# Altium footprint library PB0042.PcbLib: 39 footprints (part 2 of 3)
Each footprint in its own frame and in the unit in brackets; x right, y up, seen from the top. Pads: shape width x height; smd on the part's side, far side on the other; paste and mask are expansions set on the pad; w line width, h text height; cw(c..) or ccw(c..) is an arc to the next point about the centre after c.
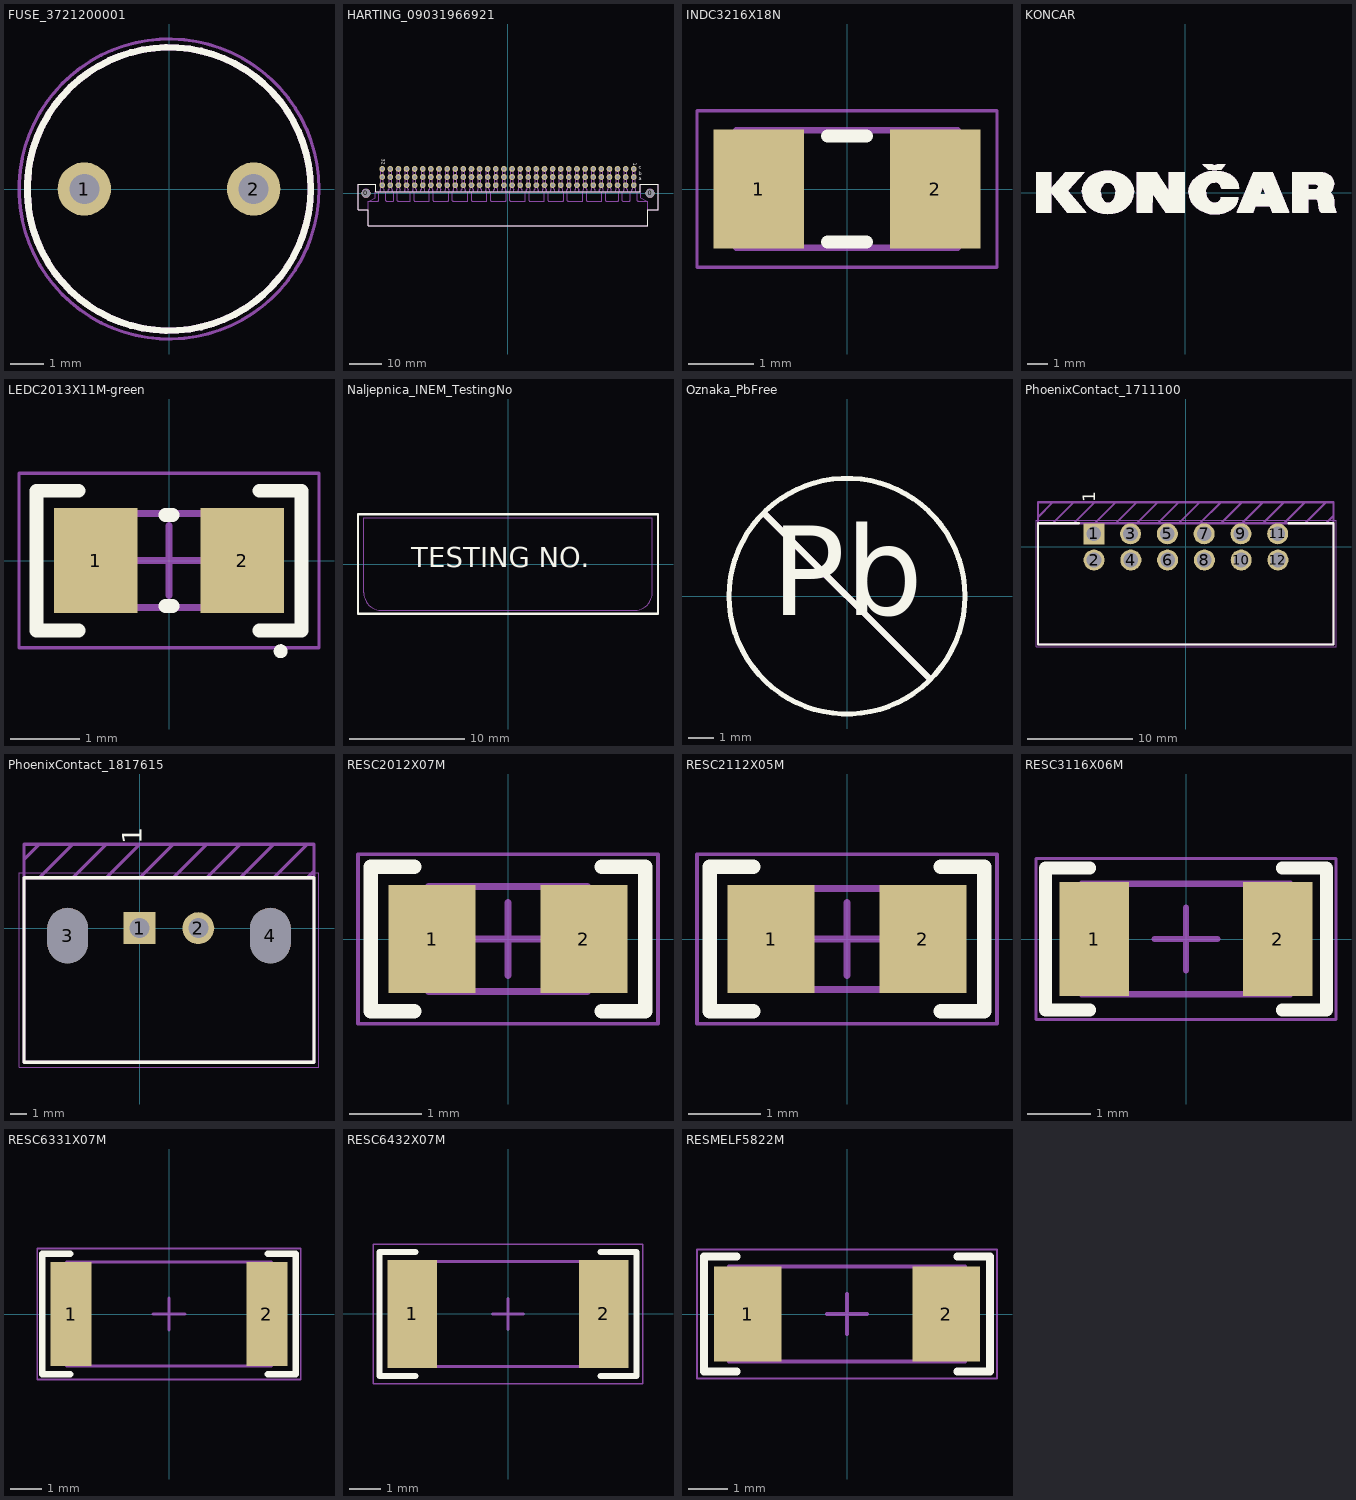
[diagram p1: the footprints below, top view; thin cyan lines are the x and y axes]

## FUSE_3721200001 [mm]
pads (2):
  round 1.6 hole 0.9: 1(-2.54,0) 2(2.54,0)
Top Overlay:
  circle w0.2: c0,0 r4.25
Top Assembly:
  circle w0.2: c0,0 r4.25
  text ".Designator" at -0.55,-0.439 h1.52
Top Courtyard:
  circle w0.1: c0,0 r4.5
3D body: height 8.5, standoff -3.8, extent -4.25,-4.25 4.25,4.25

## HARTING_09031966921 [mm]
pads (98):
  round 2.8 hole 2.8 unplated: 0(-44.45,0) 0(44.45,0)
  round 1.8 hole 1.1: 1a(39.37,2.54) 1b(39.37,5.08) 1c(39.37,7.62) 2a(36.83,2.54) 2b(36.83,5.08) 2c(36.83,7.62) 3a(34.29,2.54) 3b(34.29,5.08) 3c(34.29,7.62) 4a(31.75,2.54) 4b(31.75,5.08) 4c(31.75,7.62) 5a(29.21,2.54) 5b(29.21,5.08) 5c(29.21,7.62) 6a(26.67,2.54) 6b(26.67,5.08) 6c(26.67,7.62) 7a(24.13,2.54) 7b(24.13,5.08) 7c(24.13,7.62) 8a(21.59,2.54) 8b(21.59,5.08) 8c(21.59,7.62) 9a(19.05,2.54) 9b(19.05,5.08) 9c(19.05,7.62) 10a(16.51,2.54) 10b(16.51,5.08) 10c(16.51,7.62) 11a(13.97,2.54) 11b(13.97,5.08) 11c(13.97,7.62) 12a(11.43,2.54) 12b(11.43,5.08) 12c(11.43,7.62) 13a(8.89,2.54) 13b(8.89,5.08) 13c(8.89,7.62) 14a(6.35,2.54) 14b(6.35,5.08) 14c(6.35,7.62) 15a(3.81,2.54) 15b(3.81,5.08) 15c(3.81,7.62) 16a(1.27,2.54) 16b(1.27,5.08) 16c(1.27,7.62) 17a(-1.27,2.54) 17b(-1.27,5.08) 17c(-1.27,7.62) 18a(-3.81,2.54) 18b(-3.81,5.08) 18c(-3.81,7.62) 19a(-6.35,2.54) 19b(-6.35,5.08) 19c(-6.35,7.62) 20a(-8.89,2.54) 20b(-8.89,5.08) 20c(-8.89,7.62) 21a(-11.43,2.54) 21b(-11.43,5.08) 21c(-11.43,7.62) 22a(-13.97,2.54) 22b(-13.97,5.08) 22c(-13.97,7.62) 23a(-16.51,2.54) 23b(-16.51,5.08) 23c(-16.51,7.62) 24a(-19.05,2.54) 24b(-19.05,5.08) 24c(-19.05,7.62) 25a(-21.59,2.54) 25b(-21.59,5.08) 25c(-21.59,7.62) 26a(-24.13,2.54) 26b(-24.13,5.08) 26c(-24.13,7.62) 27a(-26.67,2.54) 27b(-26.67,5.08) 27c(-26.67,7.62) 28a(-29.21,2.54) 28b(-29.21,5.08) 28c(-29.21,7.62) 29a(-31.75,2.54) 29b(-31.75,5.08) 29c(-31.75,7.62) 30a(-34.29,2.54) 30b(-34.29,5.08) 30c(-34.29,7.62) 31a(-36.83,2.54) 31b(-36.83,5.08) 31c(-36.83,7.62) 32a(-39.37,2.54) 32b(-39.37,5.08) 32c(-39.37,7.62)
Top Overlay:
  lines w0.2: -46.95,-5.2 -46.95,2.85 -41.45,2.85 -41.45,0.5 41.45,0.5 41.45,2.85 46.95,2.85 46.95,-5.2 43.7,-5.2 43.7,-10.1 -43.7,-10.1 -43.7,-5.2 -46.95,-5.2
  text "32" at -40,10.77 h2
  text "1" at 38.7,9.57 h2
  text "c" at 40.85,7.145 h2
  text "b" at 40.975,5.17 h2
  text "a" at 40.9,3.545 h2
Bottom Overlay:
  text "1" at 38.7,9.07 h2
  text "32" at -40,8.97 h2
  text "c" at 41.5,7.07 h2
  text "b" at 41.5,4.57 h2
  text "a" at 41.7,2.07 h2
Top Assembly:
  drawing of 1810 lines, arcs and shapes, not listed
  text ".Designator" at -4.445,-5.207 h2
  text "1" at 38.7,9.07 h2
  text "32" at -40.259,9.017 h2
  text "a" at 40.64,3.048 h2
  text "b" at 40.64,4.572 h2
  text "c" at 40.64,7.112 h2
Top Courtyard:
  lines w0.2: -46.95,-5.2 -46.95,2.85 -41.45,2.85 -41.45,0.5 41.45,0.5 41.45,2.85 46.95,2.85 46.95,-5.2 43.7,-5.2 43.7,-10.1 -43.7,-10.1 -43.7,-5.2 -46.95,-5.2
3D body: height 9.36, standoff -3.02, extent -47.004,-10.1 47,7.92

## INDC3216X18N [mm]
pads (2):
  rect 1.39x1.82 smd: 1(-1.355,0) 2(1.355,0)
Top Overlay:
  lines w0.2: -0.3,-0.81 0.3,-0.81 ; -0.3,0.81 0.3,0.81
Top Assembly:
  lines w0.1: -1.7,-0.9 1.7,-0.9 1.7,0.9 -1.7,0.9 -1.7,-0.9
  text ".designator" at -0.253,0.65 h1.52
Top Courtyard:
  lines w0.05: -2.3,-1.2 2.3,-1.2 2.3,1.2 -2.3,1.2 -2.3,-1.2
3D body "INDC3216X18N.step": height 1.8, standoff 0, extent -1.7,-0.9 1.7,0.9

## KONCAR [mm]
Top Overlay:
  drawing of 1820 lines, arcs and shapes, not listed
Top Assembly:
  drawing of 1820 lines, arcs and shapes, not listed

## LEDC2013X11M-green [mm]
pads (2):
  rect 1.2x1.5 smd: 1(-1.05,0) 2(1.05,0)
Top Overlay:
  circle w0.1: c1.6,-1.3 r0.05
  lines w0.2: -1.3,-1 -1.9,-1 -1.9,1 -1.3,1 ; -0.05,-0.65 0.05,-0.65 ; -0.05,0.65 0.05,0.65 ; 1.3,-1 1.9,-1 1.9,1 1.3,1
Top Assembly:
  lines w0.1: 0.6,-0.675 0.6,0.675 ; 0.697,-0.675 0.697,0.675 ; 0.762,-0.675 0.762,0.675 ; -1.05,-0.675 -1.05,0.675 1.05,0.675 1.05,-0.675 -1.05,-0.675
  text ".Designator" at -1.15,1.061 h1.52
Top Courtyard:
  lines w0.05: -2.15,-1.25 -2.15,1.25 2.15,1.25 2.15,-1.25 -2.15,-1.25
  lines w0.1: -0.5,0 0.5,0 ; 0,-0.5 0,0.5
3D body: height 1.1, standoff 0, extent -1.01,-0.625 1.01,0.625

## Naljepnica_INEM_TestingNo [mm]
Top Overlay:
  lines w0.2: -13,-4.3 -13,4.3 13,4.3 13,-4.3 -13,-4.3
  text "TESTING NO." at -8.4,-0.9 h3
Top Assembly:
  lines w0.1: -12.5,-2.5 ccw(c-11,-2.5) -11,-4 11,-4 ccw(c11,-2.5) 12.5,-2.5 12.5,4 -12.5,4 -12.5,-2.5
  text "TESTING NO." at -8.4,-0.9 h3

## Oznaka_PbFree [mm]
Top Overlay:
  circle w0.2: c0,0 r4.6
  lines w0.254: -3.225,3.225 3.225,-3.225
  text "Pb" at -2.964,-1.891 h6
Top Assembly:
  circle w0.1: c0,0 r4.6
  lines w0.254: -3.225,3.225 3.225,-3.225
  text "Pb" at -2.964,-1.891 h6

## PCB_broj [mm]
Top Overlay:
  text ".K_PcbNum" at -6.3,-0.694 h3

## PhoenixContact_1711100 [mm]
pads (12):
  rect 2x2 hole 1.4: 1(-8.762,1.25)
  round 2 hole 1.4: 2(-8.737,-1.25) 3(-5.262,1.25) 4(-5.237,-1.25) 5(-1.762,1.25) 6(-1.737,-1.25) 7(1.738,1.25) 8(1.763,-1.25) 9(5.238,1.25) 10(5.263,-1.25) 11(8.738,1.25) 12(8.763,-1.25)
Top Overlay:
  lines w0.2: -10.162,2.25 -14.062,2.25 -14.062,-9.287 14.038,-9.287 14.038,2.25 9.788,2.25
  text "1" at -8.237,4.25 h2
Top Assembly:
  lines w0.2: -14.062,-9.291 14.038,-9.291 14.038,2.25 -14.062,2.25 -14.062,-9.291
  text "'.Designator'" at 0.189,-4.337 h2
  text "1" at -8.211,0.963 h2
Top Courtyard:
  lines w0.05: -14.262,-9.5 14.288,-9.5 14.288,2.55 -14.262,2.55 -14.262,-9.5
Top Coating:
  lines w0.2: -14.062,2.85 -12.662,4.25 ; -12.662,2.25 -10.663,4.25 ; -10.662,2.25 -8.662,4.25 ; -8.662,2.25 -6.662,4.25 ; -6.662,2.25 -4.663,4.25 ; -4.662,2.25 -2.662,4.25 ; -2.662,2.25 -0.663,4.25 ; -0.662,2.25 1.338,4.25 ; 1.338,2.25 3.338,4.25 ; 3.338,2.25 5.338,4.25 ; 5.338,2.25 7.337,4.25 ; 7.338,2.25 9.337,4.25 ; 9.338,2.25 11.338,4.25 ; 11.338,2.25 13.337,4.25 ; 13.338,2.25 14.025,2.937 ; -14.062,2.25 -14.062,4.25 14.038,4.25 14.038,2.25 -14.062,2.25
3D body "1787056_3D.stp": height 10.82, standoff -1.98, extent -14,-9.225 14,2.375

## PhoenixContact_1817615 [mm]
pads (4):
  rect 1.9x1.9 hole 1.2: 1(0,0)
  round 1.9 hole 1.2: 2(3.5,0)
  oval 2.4x3.3 hole 2.4 slot 3.3 at 90 deg unplated: 3(-4.3,-0.45) 4(7.8,-0.45)
Top Overlay:
  lines w0.2: -6.9,-8 -6.9,3 10.4,3 10.4,-8 -6.9,-8
  text "1" at 0.5,5 h2
Top Assembly:
  lines w0.2: -6.9,-8 -6.9,3 10.4,3 10.4,-8 -6.9,-8
  text "1" at 0.389,-0.346 h2
  text "'.Designator'" at 2.289,-3.846 h2
Top Courtyard:
  lines w0.05: -7.2,-8.3 10.7,-8.3 10.7,3.3 -7.2,3.3 -7.2,-8.3
Top Coating:
  lines w0.2: -6.9,4.1 -6,5 ; -6,3 -4,5 ; -4,3 -2,5 ; -2,3 0,5 ; 0,3 2,5 ; 2,3 4,5 ; 4,3 6,5 ; 6,3 8,5 ; 8,3 10,5 ; 10,3 10.4,3.4 ; -6.9,3 10.4,3 10.4,5 -6.9,5 -6.9,3
3D body: height 7.26, standoff -3.39, extent -6.9,-8 10.4,1.2

## RESC2012X07M [mm]
pads (2):
  rect 1.2x1.5 smd: 1(-1.05,0) 2(1.05,0)
Top Overlay:
  lines w0.2: -1.3,-1 -1.9,-1 -1.9,1 -1.3,1 ; 1.3,-1 1.9,-1 1.9,1 1.3,1
Top Assembly:
  lines w0.1: -1.1,-0.725 -1.1,0.725 1.1,0.725 1.1,-0.725 -1.1,-0.725
  text "'.Designator'" at 0.7,0.5 h1.5
Top Courtyard:
  lines w0.05: -2.075,-1.175 -2.075,1.175 2.075,1.175 2.075,-1.175 -2.075,-1.175
  lines w0.1: -0.5,0 0.5,0 ; 0,-0.5 0,0.5
3D body "RESC2012X07M.step": height 0.65, standoff 0, extent -1.1,-0.725 1.1,0.725

## RESC2112X05M [mm]
pads (2):
  rect 1.2x1.5 smd: 1(-1.05,0) 2(1.05,0)
Top Overlay:
  lines w0.2: -1.3,-1 -1.9,-1 -1.9,1 -1.3,1 ; 1.3,-1 1.9,-1 1.9,1 1.3,1
Top Assembly:
  lines w0.1: -1.1,-0.7 1.1,-0.7 1.1,0.7 -1.1,0.7 -1.1,-0.7
  text ".Designator" at 0.7,0.5 h1.52
Top Courtyard:
  lines w0.05: -2.075,-1.175 2.075,-1.175 2.075,1.175 -2.075,1.175 -2.075,-1.175
  lines w0.1: -0.5,0 0.5,0 ; 0,-0.5 0,0.5
3D body "RESC2112X05M.step": height 0.5, standoff 0, extent -1.1,-0.7 1.1,0.7

## RESC3116X06M [mm]
pads (2):
  rect 1.1x1.8 smd: 1(-1.45,0) 2(1.45,0)
Top Overlay:
  lines w0.2: -1.525,-1.125 -2.225,-1.125 -2.225,1.125 -1.525,1.125 ; 1.525,-1.125 2.225,-1.125 2.225,1.125 1.525,1.125
Top Assembly:
  lines w0.1: -1.65,-0.875 1.65,-0.875 1.65,0.875 -1.65,0.875 -1.65,-0.875
  text ".Designator" at 0.7,0.5 h1.52
Top Courtyard:
  lines w0.05: -2.375,-1.275 2.375,-1.275 2.375,1.275 -2.375,1.275 -2.375,-1.275
  lines w0.1: -0.5,0 0.5,0 ; 0,-0.5 0,0.5
3D body "RESC3116X06M.step": height 0.6, standoff 0, extent -1.65,-0.875 1.65,0.875

## RESC6331X07M [mm]
pads (2):
  rect 1.3x3.3 smd: 1(-3.1,0) 2(3.1,0)
Top Overlay:
  lines w0.2: -3.125,-1.905 -4.014,-1.905 -4.014,1.905 -3.125,1.905 ; 3.125,-1.905 4.014,-1.905 4.014,1.905 3.125,1.905
Top Assembly:
  lines w0.1: -3.25,-1.65 3.25,-1.65 3.25,1.65 -3.25,1.65 -3.25,-1.65
  text ".Designator" at -0.85,-0.489 h1.52
Top Courtyard:
  lines w0.05: -4.175,-2.075 4.175,-2.075 4.175,2.075 -4.175,2.075 -4.175,-2.075
  lines w0.1: -0.5,0 0.5,0 ; 0,-0.5 0,0.5
3D body "RESC6331X07M.step": height 0.7, standoff 0, extent -3.25,-1.65 3.25,1.65

## RESC6432X07M [mm]
pads (2):
  rect 1.6x3.5 smd: 1(-3.1,0) 2(3.1,0)
Top Overlay:
  lines w0.2: -3,-2 -4.15,-2 -4.15,2 -3,2 ; 3,-2 4.15,-2 4.15,2 3,2
Top Assembly:
  lines w0.1: -3.3,-1.7 -3.3,1.7 3.3,1.7 3.3,-1.7 -3.3,-1.7
  text "'.Designator'" at -0.389,0.8 h1.52
Top Courtyard:
  lines w0.05: -4.35,-2.25 -4.35,2.25 4.35,2.25 4.35,-2.25 -4.35,-2.25
  lines w0.1: -0.5,0 0.5,0 ; 0,-0.5 0,0.5
3D body "RESC6432X07M.step": height 0.7, standoff 0, extent -3.3,-1.7 3.3,1.7

## RESMELF5822M [mm]
pads (2):
  rect 1.7x2.4 smd: 1(-2.5,0) 2(2.5,0)
Top Overlay:
  lines w0.2: -2.775,-1.45 -3.6,-1.45 -3.6,1.45 -2.775,1.45 ; 2.775,-1.45 3.6,-1.45 3.6,1.45 2.775,1.45
Top Assembly:
  lines w0.1: -2.975,-1.2 -2.975,1.2 2.975,1.2 2.975,-1.2 -2.975,-1.2
  text ".Designator" at -1.089,-0.4 h1.52
Top Courtyard:
  lines w0.05: -3.775,-1.625 -3.775,1.625 3.775,1.625 3.775,-1.625 -3.775,-1.625
  lines w0.1: -0.5,0 0.5,0 ; 0,-0.5 0,0.5
3D body "RESMELF5822M.step": height 2.2, standoff 0, extent -2.9,-1.1 2.9,1.1